# Altium schematic symbol library STM32F103C6T7A.SchLib: 1 symbol
Pins are listed as number, name and electrical type; pins without a type are passive.

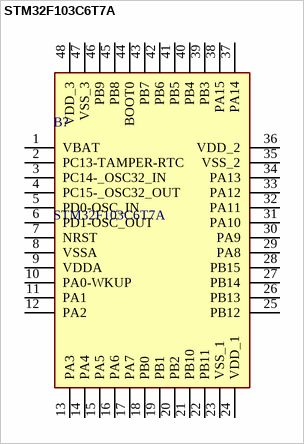
[diagram p0: symbol STM32F103C6T7A]

## STM32F103C6T7A
designator B?
STM32F103C6T7A, 32 bit ARM Cortex M3 Microcontroller 72MHz 32 kB Flash, 10 kB RAM, USB CAN I2C 48-Pin LQFP; Manufacturer_Name: STMicroelectronics; Geometry.Height: 1.6mm; Manufacturer_Part_Number: STM32F103C6T7A; Mouser Part Number: 511-STM32F103C6T7A; Mouser Price/Stock: https://www.mouser.co.uk/ProductDetail/STMicroelectronics/STM32F103C6T7A?qs=SU4Xa%252BYHGQqu3yFVVzmi7g%3D%3D; Arrow Part Number: STM32F103C6T7A; Arrow Price/Stock: https://www.arrow.com/en/products/stm32f103c6t7a/stmicroelectronics?region=nac; Datasheet Link: http://www.st.com/st-web-ui/static/active/en/resource/technical/document/datasheet/CD00210843.pdf
footprint QFP50P900X900X160-48N
pins: 1 VBAT, 2 PC13-TAMPER-RTC, 3 PC14-_OSC32_IN, 4 PC15-_OSC32_OUT, 5 PD0-OSC_IN, 6 PD1-OSC_OUT, 7 NRST, 8 VSSA, 9 VDDA, 10 PA0-WKUP, 11 PA1, 12 PA2, 13 PA3, 14 PA4, 15 PA5, 16 PA6, 17 PA7, 18 PB0, 19 PB1, 20 PB2, 21 PB10, 22 PB11, 23 VSS_1, 24 VDD_1, 25 PB12, 26 PB13, 27 PB14, 28 PB15, 29 PA8, 30 PA9, 31 PA10, 32 PA11, 33 PA12, 34 PA13, 35 VSS_2, 36 VDD_2, 37 PA14, 38 PA15, 39 PB3, 40 PB4, 41 PB5, 42 PB6, 43 PB7, 44 BOOT0, 45 PB8, 46 PB9, 47 VSS_3, 48 VDD_3